# Altium footprint library HS7805.PcbLib: 1 footprints
Each footprint in its own frame and in the unit in brackets; x right, y up, seen from the top. Pads: shape width x height; smd on the part's side, far side on the other; paste and mask are expansions set on the pad; w line width, h text height; cw(c..) or ccw(c..) is an arc to the next point about the centre after c.
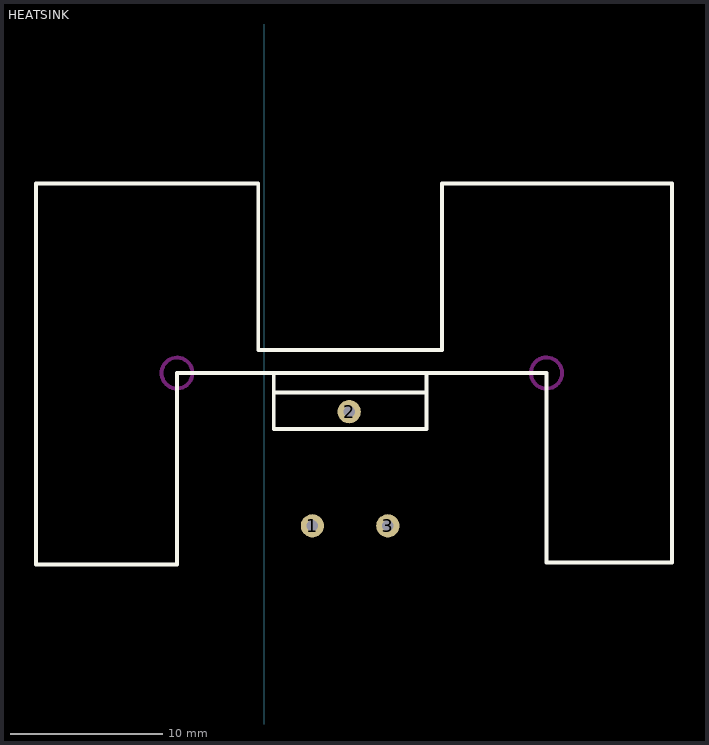
[diagram p0: the footprint, top view; thin cyan lines are the x and y axes]

## HEATSINK [mil]
pads (3):
  round 60 hole 30: 1(125,-1495) 2(220,-1200) 3(320,-1495)
Top Overlay:
  lines w10: 25,-1150 415,-1150 ; 25,-1100 25,-1245 420,-1245 420,-1210 ; 420,-1225 420,-1105 ; -590,-1595 -225,-1595 -225,-1100 730,-1100 730,-1590 1055,-1590 1055,-610 460,-610 460,-1040 -15,-1040 -15,-610 -590,-610 -590,-1595
Keep-Out Layer:
  circle w10: c-225,-1100 r40
  circle w10: c730,-1100 r40.31